# Altium footprint library LIANGJICHAO_LIBRARY.PCBLIB: 178 footprints (part 11 of 12)
Each footprint in its own frame and in the unit in brackets; x right, y up, seen from the top. Pads: shape width x height; smd on the part's side, far side on the other; paste and mask are expansions set on the pad; w line width, h text height; cw(c..) or ccw(c..) is an arc to the next point about the centre after c.
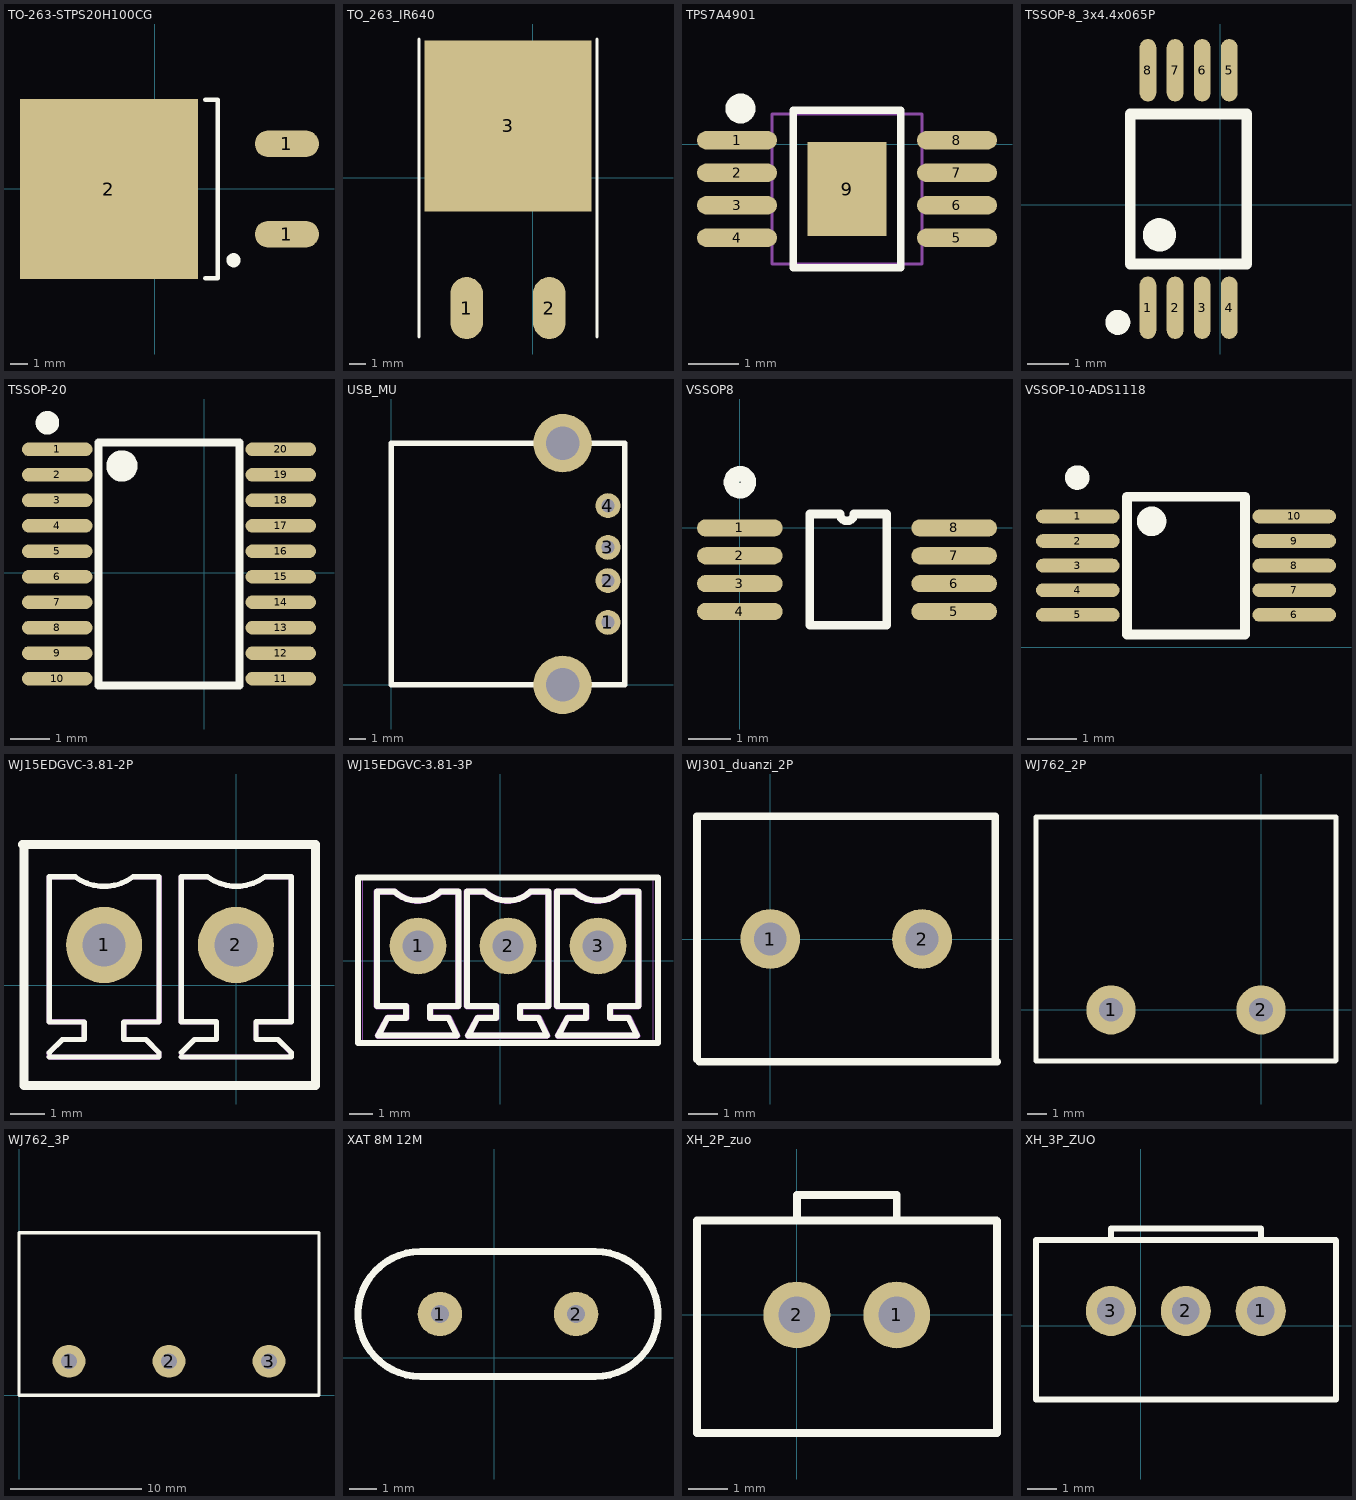
[diagram p10: the footprints below, top view; thin cyan lines are the x and y axes]

## TO-263-STPS20H100CG [mm]
pads (3):
  oval 3.6x1.5 smd: 1(7.419,-2.567) 1(7.419,2.513)
  rect 10x10.1 smd: 2(-2.581,-0.027)
Top Overlay:
  circle w0.4: c4.419,-4.027 r0.2
  lines w0.254: 2.819,-5.027 3.519,-5.027 3.519,4.973 2.819,4.973

## TO_263_IR640 [mm]
pads (3):
  oval 2x3.8 smd: 1(-4.064,-8) 2(1.016,-8)
  rect 10.25x10.5 smd: 3(-1.524,3.175)
Top Overlay:
  circle w0.25: c-4.064,-9.407 r0.125
  lines w0.2: -6.985,-9.779 -6.985,8.509 ; 3.937,-9.779 3.937,8.509

## TPS7A4901 [mm]
pads (9):
  oval 1.6x0.364 smd: 1(-6.744,0.079) 2(-6.744,-0.571) 3(-6.744,-1.221) 4(-6.744,-1.871) 5(-2.344,-1.871) 6(-2.344,-1.221) 7(-2.344,-0.571) 8(-2.344,0.079)
  rect 1.57x1.89 smd: 9(-4.544,-0.896)
Top Overlay:
  circle w0.3: c-6.675,0.713 r0.15
  lines w0.152: -5.615,-2.472 -5.615,0.68 -3.472,0.68 -3.472,-2.472 -5.615,-2.472
Mechanical 15:
  region: -6.994,0.237 -6.444,0.237 -6.444,-0.078 -6.994,-0.078
  region: -6.454,0.237 -6.034,0.237 -6.034,-0.078 -6.454,-0.078
  region: -6.994,-0.413 -6.444,-0.413 -6.444,-0.728 -6.994,-0.728
  region: -6.454,-0.413 -6.034,-0.413 -6.034,-0.728 -6.454,-0.728
  region: -6.994,-1.063 -6.444,-1.063 -6.444,-1.378 -6.994,-1.378
  region: -6.454,-1.063 -6.034,-1.063 -6.034,-1.378 -6.454,-1.378
  region: -6.994,-1.713 -6.444,-1.713 -6.444,-2.028 -6.994,-2.028
  region: -6.454,-1.713 -6.034,-1.713 -6.034,-2.028 -6.454,-2.028
  region: -2.094,0.237 -2.644,0.237 -2.644,-0.078 -2.094,-0.078
  region: -2.634,0.237 -3.054,0.237 -3.054,-0.078 -2.634,-0.078
  region: -2.094,-0.413 -2.644,-0.413 -2.644,-0.728 -2.094,-0.728
  region: -2.634,-0.413 -3.054,-0.413 -3.054,-0.728 -2.634,-0.728
  region: -2.094,-1.063 -2.644,-1.063 -2.644,-1.378 -2.094,-1.378
  region: -2.634,-1.063 -3.054,-1.063 -3.054,-1.378 -2.634,-1.378
  region: -2.094,-1.713 -2.644,-1.713 -2.644,-2.028 -2.094,-2.028
  region: -2.634,-1.713 -3.054,-1.713 -3.054,-2.028 -2.634,-2.028
  region: -3.831,-0.016 -3.831,-1.776 -5.256,-1.776 -5.256,-0.016
  lines w0.051: -6.044,-2.396 -6.044,0.604 -3.044,0.604 -3.044,-2.396 -6.044,-2.396

## TSSOP-8_3x4.4x065P [mm]
pads (8):
  oval 0.4x1.5 smd: 1(-1.737,-2.469) 2(-1.087,-2.469) 3(-0.437,-2.469) 4(0.213,-2.469) 5(0.213,3.231) 6(-0.437,3.231) 7(-1.087,3.231) 8(-1.737,3.231)
Top Overlay:
  circle w0.4: c-1.462,-0.719 r0.2
  circle w0.3: c-2.462,-2.819 r0.15
  lines w0.254: -2.162,-1.419 -2.162,2.181 0.638,2.181 0.638,-1.419 -2.162,-1.419

## TSSOP-20 [mm]
pads (20):
  oval 1.8x0.35 smd: 1(-3.754,3.149) 2(-3.754,2.499) 3(-3.754,1.849) 4(-3.754,1.199) 5(-3.754,0.549) 6(-3.754,-0.101) 7(-3.754,-0.751) 8(-3.754,-1.401) 9(-3.754,-2.051) 10(-3.754,-2.701) 11(1.946,-2.701) 12(1.946,-2.051) 13(1.946,-1.401) 14(1.946,-0.751) 15(1.946,-0.101) 16(1.946,0.549) 17(1.946,1.199) 18(1.946,1.849) 19(1.946,2.499) 20(1.946,3.149)
Top Overlay:
  circle w0.3: c-4.004,3.824 r0.15
  circle w0.4: c-2.104,2.724 r0.2
  lines w0.2: -2.704,-2.876 0.896,-2.876 0.896,3.324 -2.704,3.324 -2.704,-2.876

## USB_MU [mm]
pads (6):
  round 1.5 hole 0.8: 1(13,3.75) 2(13,6.25) 3(13,8.25) 4(13,10.75)
  round 3.5 hole 2: ""(10.28,0) ""(10.28,14.5)
Top Overlay:
  lines w0.35: 0,0 0,14.5 14,14.5 14,0 0,0

## VSSOP8 [mm]
pads (8):
  oval 2x0.4 smd: 1(0,0) 2(0,-0.65) 3(0,-1.3) 4(0,-1.95) 5(5,-1.95) 6(5,-1.3) 7(5,-0.65) 8(5,0)
Top Overlay:
  circle w0.36: c0,1.067 r0.2
  lines w0.2: 1.628,-2.275 3.423,-2.275 3.423,0.325 2.662,0.325 cw(c2.5,0.325) 2.338,0.325 1.628,0.325 1.628,-2.275

## VSSOP-10-ADS1118 [mm]
pads (10):
  oval 1.7x0.28 smd: 1(-5.6,2.664) 2(-5.6,2.164) 3(-5.6,1.664) 4(-5.6,1.164) 5(-5.6,0.664) 6(-1.2,0.664) 7(-1.2,1.164) 8(-1.2,1.664) 9(-1.2,2.164) 10(-1.2,2.664)
Top Overlay:
  circle w0.35: c-4.1,2.564 r0.125
  circle w0.25: c-5.611,3.454 r0.125
  lines w0.2: -4.6,0.264 -4.6,3.064 -2.2,3.064 -2.2,0.264 -4.6,0.264

## WJ15EDGVC-3.81-2P [mm]
pads (2):
  round 2.2 hole 1.25: 1(-3.818,1.163) 2(-0.008,1.163)
Top Overlay:
  lines w0.152: -5.406,-2.076 -2.231,-2.076 -2.231,-1.949 -2.612,-1.568 -3.12,-1.568 -3.248,-1.568 -3.248,-1.06 -2.231,-1.06 -2.231,3.131 -2.983,3.131 cw(c-3.818,4.261) -4.653,3.131 -5.406,3.131 -5.406,-1.06 -4.39,-1.06 -4.39,-1.441 -4.39,-1.568 -5.025,-1.568 -5.406,-1.949 ; -1.586,-2.073 1.589,-2.073 1.589,-1.946 1.208,-1.565 0.7,-1.565 0.571,-1.565 0.571,-1.057 1.589,-1.057 1.589,3.134 0.836,3.134 cw(c0.001,4.264) -0.834,3.134 -1.586,3.134 -1.586,-1.057 -0.57,-1.057 -0.57,-1.438 -0.57,-1.565 -1.205,-1.565 -1.586,-1.946
  lines w0.254: -6.173,4.063 2.287,4.063 2.287,-2.897 -6.133,-2.897 -6.133,4.043
Mechanical 6:
  drawing of 10 lines, arcs and shapes, not listed
Mechanical 15:
  region: -0.408,1.563 0.392,1.563 0.392,0.763 -0.408,0.763
  region: -4.218,1.563 -3.418,1.563 -3.418,0.763 -4.218,0.763
  region: -6.103,-2.937 -6.103,-2.912 -6.138,-2.877 -6.188,-2.877 -6.223,-2.912 -6.223,-2.937 -6.223,-2.962 -6.188,-2.997 -6.138,-2.997 -6.103,-2.962
  lines w0.051: -6.163,-2.937 -6.163,4.063 2.337,4.063 2.337,-2.937 -6.163,-2.937

## WJ15EDGVC-3.81-3P [mm]
pads (3):
  round 2.4 hole 1.3: 1(-3.48,0.629) 2(0.33,0.629) 3(4.14,0.629)
Top Overlay:
  lines w0.254: -2.52,2.93 -1.77,2.93 -1.77,-1.921 -2.972,-1.921 -2.972,-2.419 -2.19,-2.419 -1.82,-3.171 -5.17,-3.171 -4.77,-2.419 -3.988,-2.419 -3.988,-1.911 -5.22,-1.911 -5.22,2.929 -4.47,2.929 ccw(c-3.495,3.958) -2.52,2.931 ; -0.66,2.929 -1.41,2.929 -1.41,-1.911 -0.178,-1.911 -0.178,-2.419 -0.96,-2.419 -1.36,-3.171 1.99,-3.171 1.621,-2.419 0.838,-2.419 ; -0.66,2.929 ccw(c0.315,3.958) 1.29,2.931 ; 0.838,-2.419 0.838,-1.921 2.04,-1.921 2.04,2.929 1.29,2.93 ; 4.649,-2.419 5.431,-2.419 5.8,-3.171 2.45,-3.171 2.85,-2.419 3.632,-2.419 3.632,-1.911 2.4,-1.911 2.4,2.929 3.151,2.929 ccw(c4.125,3.958) 5.1,2.931 ; 4.648,-2.419 4.648,-1.921 5.85,-1.921 5.85,2.929 5.1,2.93 ; -6.02,-3.471 6.68,-3.471 6.68,3.529 -6.02,3.529 -6.02,-3.471
Mechanical 6:
  drawing of 9 lines, arcs and shapes, not listed
Mechanical 15:
  region: 3.74,1.029 4.54,1.029 4.54,0.229 3.74,0.229
  region: -0.07,1.029 0.73,1.029 0.73,0.229 -0.07,0.229
  region: -3.88,1.029 -3.08,1.029 -3.08,0.229 -3.88,0.229
  region: -5.765,-3.471 -5.766,-3.447 -5.801,-3.413 -5.849,-3.413 -5.884,-3.447 -5.885,-3.471 -5.884,-3.495 -5.849,-3.528 -5.801,-3.528 -5.766,-3.495
  lines w0.051: -5.825,-3.471 -5.825,3.529 6.485,3.529 6.485,-3.471 -5.825,-3.471

## WJ301_duanzi_2P [mm]
pads (2):
  round 2 hole 1.1: 1(0,0) 2(5.08,0)
Top Overlay:
  lines w0.254: -2.449,-4.028 -2.449,4.1 0,4.1 5.08,4.1 7.529,4.1 7.529,-4.045 ; -2.377,-4.1 0,-4.1 5.08,-4.1 7.584,-4.1

## WJ762_2P [mm]
pads (2):
  round 2.5 hole 1.2: 1(-7.62,0) 2(0,0)
Top Overlay:
  lines w0.254: -11.43,0 -11.43,-2.6 ; 3.785,-2.6 -11.43,-2.6 ; 3.81,-2.575 3.81,0 ; 3.81,-0.686 3.81,9.8 -11.43,9.8 -11.43,-2.6

## WJ762_3P [mm]
pads (3):
  round 2.5 hole 1.2: 1(3.81,2.6) 2(11.43,2.6) 3(19.05,2.6)
Top Overlay:
  lines w0.254: 0,2.6 0,0 ; 0,0 22.86,0 22.86,12.4 0,12.4 0,0

## XAT 8M 12M [mm]
pads (2):
  round 1.6 hole 0.65: 1(-1.948,1.571) 2(2.952,1.571)
Top Overlay:
  lines w0.254: -2.648,-0.677 cw(c-2.648,1.571) -2.648,3.819 3.652,3.819 cw(c3.652,1.571) 3.652,-0.677 -2.648,-0.677

## XH_2P_zuo [mm]
pads (2):
  round 1.7 hole 0.93: 1(2.54,0) 2(0,0)
Top Overlay:
  lines w0.2: 0,2.4 0,2.794 0,3.048 2.54,3.048 2.54,2.4 ; 5.08,2.4 -2.54,2.4 -2.54,-3 5.088,-3 ; 5.088,2.392 5.088,-3 ; 5.088,-3 5.088,-3

## XH_3P_ZUO [mm]
pads (3):
  round 1.7 hole 0.93: 1(4.064,0.508) 2(1.524,0.508) 3(-1.016,0.508)
Top Overlay:
  lines w0.2: -1.016,2.908 -1.016,3.302 1.524,3.302 4.064,3.302 4.064,2.908 ; 4.072,-2.492 6.612,-2.492 ; 6.604,2.908 4.064,2.908 ; 6.612,2.9 6.612,-2.492 ; 4.064,2.908 -3.556,2.908 -3.556,-2.492 6.612,-2.492